# Altium footprint library PcbLib1.PcbLib: 1 footprints
Each footprint in its own frame and in the unit in brackets; x right, y up, seen from the top. Pads: shape width x height; smd on the part's side, far side on the other; paste and mask are expansions set on the pad; w line width, h text height; cw(c..) or ccw(c..) is an arc to the next point about the centre after c.
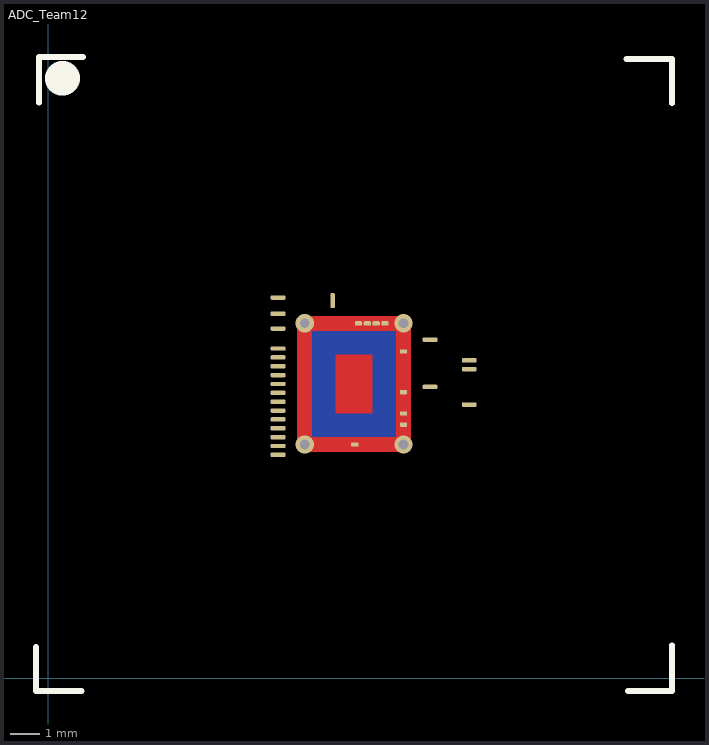
[diagram p0: the footprint, top view; thin cyan lines are the x and y axes]

## ADC_Team12 [mil]
pads (32):
  rrect50% 6x20 smd: 1(385,512)
  rrect50% 20x6 smd: 2(311,516) 3(311,494) 4(311,474) 5(311,447) 6(311,435) 6(311,435) 7(311,423) 8(311,411) 9(311,399) 10(311,387) 11(311,375) 12(311,363) 13(311,351) 14(311,339) 15(311,327) 16(311,315) 17(311,303) 32(570,371) 36(517,395) 38(570,419) 39(570,431) 44(517,459)
  rrect50% 10x6 smd: 22(415,317) 27(481,344) 29(481,359) 34(481,388) 43(481,443) 45(456,481) 46(444,481) 47(432,481) 52(420,481)
via 481,317 diameter 25 hole 13
via 347,317 diameter 25 hole 13
via 347,481 diameter 25 hole 13
via 481,481 diameter 25 hole 13
Top Layer:
  rectangle: 389,359 439,439
  lines w20: 347,317 481,317 481,481 347,481 347,317
Bottom Layer:
  rectangle: 356,326 472,472
  lines w20: 347,317 481,317 481,481 347,481 347,317
Top Overlay:
  circle w45: c19,813 r1
  lines w8: -17.12,-16.75 -17.12,42.75 ; -16.88,-17 44.88,-17 ; -13,780 -13,841.75 ; -12.75,842 46.75,842 ; 783,839 844.75,839 ; 785.25,-17 845,-17 845,45 ; 845,779.25 845,838.75
Top Solder:
  region: 0,0 828,0 828,788 0,788
  region: 44,788 828,788 828,822 44,822